# Altium schematic symbol library STC89C52RC.SCHLIB: 1 symbol
Pins are listed as number, name and electrical type; pins without a type are passive.

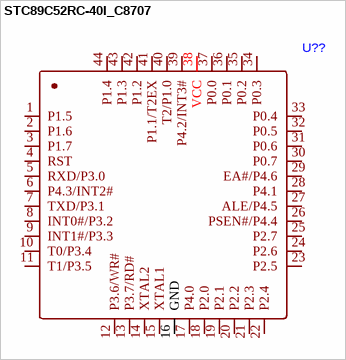
[diagram p0: symbol STC89C52RC-40I_C8707]

## STC89C52RC-40I_C8707
designator U??
footprint LQFP-44_L10.0-W10.0-P0.80-LS12.0-BL
pins: 1 P1.5, 2 P1.6, 3 P1.7, 4 RST, 5 RXD/P3.0, 6 P4.3/INT2#, 7 TXD/P3.1, 8 INT0#/P3.2, 9 INT1#/P3.3, 10 T0/P3.4, 11 T1/P3.5, 12 P3.6/WR#, 13 P3.7/RD#, 14 XTAL2, 15 XTAL1, 16 GND, 17 P4.0, 18 P2.0, 19 P2.1, 20 P2.2, 21 P2.3, 22 P2.4, 23 P2.5, 24 P2.6, 25 P2.7, 26 PSEN#/P4.4, 27 ALE/P4.5, 28 P4.1, 29 EA#/P4.6, 30 P0.7, 31 P0.6, 32 P0.5, 33 P0.4, 34 P0.3, 35 P0.2, 36 P0.1, 37 P0.0, 38 VCC, 39 P4.2/INT3#, 40 T2/P1.0, 41 P1.1/T2EX, 42 P1.2, 43 P1.3, 44 P1.4